# Altium schematic symbol library USR-C215-SCH.SCHLIB: 1 symbol
Pins are listed as number, name and electrical type; pins without a type are passive.

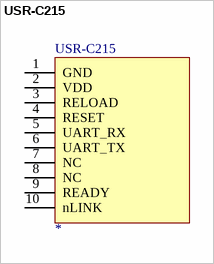
[diagram p0: symbol USR-C215]

## USR-C215
designator USR-C215
LatestRevisionDate: *; LatestRevisionNote: *; Publisher: *
footprint DIP2.0*1-10-M
pins: 1 GND, 2 VDD, 3 RELOAD, 4 RESET, 5 UART_RX, 6 UART_TX, 7 NC, 8 NC, 9 READY, 10 nLINK
2 alternate drawings of the same symbol